# EAGLE library part NOKIA5510 (library MiiLib)
The 5510 Nokia Display
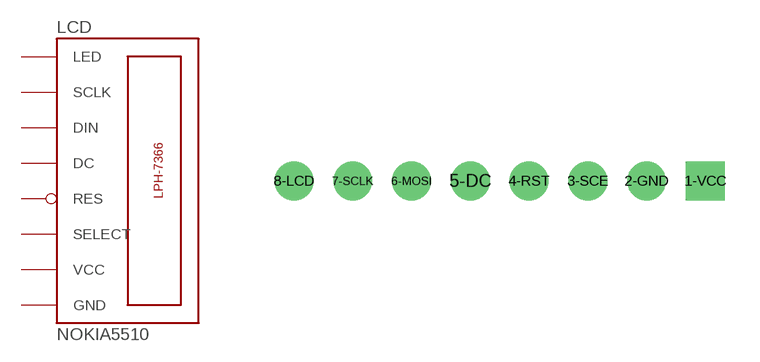
[diagram p3: symbol with the pads of NOKIA5510; footprint NOKIA5510]

Designator prefix LCD

## NOKIA5510  [NOKIA5510]
1-VCC  VCC  pas
2-GND  GND  pwr
3-SCE  SELECT  pwr
4-RST  RES  in
5-DC  DC  pas
6-MOSI  DIN  in
7-SCLK  SCLK  in
8-LCD  LED  in

## NOKIA5510NEW  [NOKIA5510]
1-VCC  RES  in
2-GND  SELECT  pwr
3-SCE  DC  pas
4-RST  DIN  in
5-DC  SCLK  in
6-MOSI  VCC  pas
7-SCLK  LED  in
8-LCD  GND  pwr

## Footprint NOKIA5510 (pad centres in mm)
drill 0.8 pad 1.676 square: 1-VCC 8.89,22.86
drill 0.8 pad 1.676: 2-GND 6.35,22.86; 3-SCE 3.81,22.86; 4-RST 1.27,22.86; 5-DC -1.27,22.86; 6-MOSI -3.81,22.86; 7-SCLK -6.35,22.86; 8-LCD -8.89,22.86